# Altium schematic symbol library PBL - Resonators.SCHLIB: 5 symbols
Pins are listed as number, name and electrical type; pins without a type are passive.

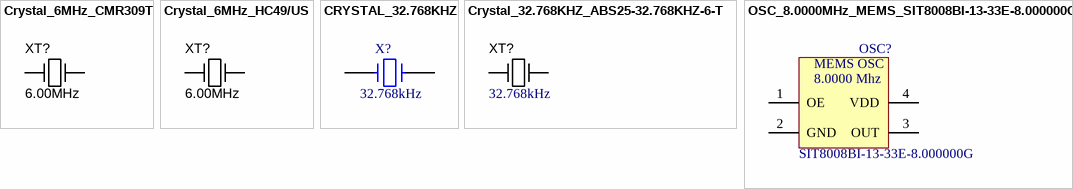
[diagram p0: symbols Crystal_6MHz_CMR309T to OSC_8.0000MHz_MEMS_SIT8008BI-13-33E-8.000000G]

## Crystal_6MHz_CMR309T
designator XT?, comment 6.00MHz
Resonator Ceramic 6.00 MHz 30ppm; Manufacturer 1: Citizen Finetech Miyota; Manufacturer Part Number 1: CMR309T-6.000MABJ-UT; Frequency: 6MHz; Frequency Stability: ±50ppm; Load Capacitance: 18pF; Operating Mode: Fundamental; SCDType: spec; Package / Case: Cylindrical Can, Radial; Ratings: 6.00 MHz; Type: MHz Crystal; Frequency Tolerance: ±30ppm; Operating Temperature: -10°C ~ 60°C; Mounting Type: Surface Mount; Size / Dimension: 0.118" Dia x 0.346" L (3.00mm x 8.80mm); Height: 0.122" (3.10mm); Supplier 1: Digi-Key; Supplier Part Number 1: 300-8348-1-ND; Tolerance: ±50ppm; ComponentLink1URL: http://media.digikey.com/pdf/Data%20Sheets/Citizen%20PDFs/CMR310T%20CMR309T.pdf; ComponentLink1Description: http://media.digikey.com/pdf/Data%20Sheets/Citizen%20PDFs/CMR310T%20CMR309T.pdf; Value: 6.00MHz
footprint CRYSTAL_CMR309T (SMD Crystal CMR309T package)
pins: 1 IN, 2 OUT

## Crystal_6MHz_HC49/US
designator XT?, comment 6.00MHz
Resonator Ceramic 6.00 MHz 30ppm; Manufacturer 1: CTS-Frequency Controls; Manufacturer Part Number 1: ATS060BSM-1; Frequency: 6MHz; Frequency Stability: ±50ppm; Load Capacitance: 18pF; Operating Mode: Fundamental; Parameter Name: 0.169" (4.30mm); SCDType: spec; Package / Case: HC49/US-SM; Ratings: 6.00 MHz; Supplier 1: Digi-Key; Supplier Part Number 1: CTX882CT-ND; Type: MHz Crystal; Frequency Tolerance: ±30ppm; Operating Temperature: -20°C ~ 70°C; Mounting Type: Surface Mount; Size / Dimension: 0.437" L x 0.190" W (11.10mm x 4.83mm); ComponentLink1URL: http://www.ctscorp.com/components/Datasheets/008-0309-0.pdf; ComponentLink1Description: http://www.ctscorp.com/components/Datasheets/008-0309-0.pdf
footprint CRYSTAL_HC49-US-SM (SMD Crystal HC49/US-SM package)
pins: 1 IN, 2 OUT

## CRYSTAL_32.768KHZ
designator X?, comment Frequency: 32.768kHz  (hidden comment: NX3215SA-32.768K-STD-MUA-8)
32.768kHz ±20ppm Crystal 12.5pF 70 kOhm -40°C ~ 85°C Surface Mount 2-SMD, No Lead; Manufacturer: NDK; ESR (Equivalent Series Resistance): 70 kOhm; Operating Mode: Fundamental; Supplier 1: Digi-Key; Supplier Part Number 1: 644-1156-1-ND; Manufacturer Part Number: NX3215SA-32.768K-STD-MUA-8; Packaging: Cut Tape (CT); Part Status: Active; Type: kHz Crystal (Tuning Fork); Frequency Stability: -; Frequency Tolerance: ±20ppm; Load Capacitance: 12.5pF; Operating Temperature: -40°C ~ 85°C; Ratings: -; Mounting Type: Surface Mount; Package / Case: 2-SMD, No Lead; Size / Dimension: 0.126" L x 0.059" W (3.20mm x 1.50mm); Height - Seated (Max): 0.035" (0.90mm); ComponentLink1URL: http://www.ndk.com/images/products/catalog/c_NX3215SA-STD-MUA-14_e.pdf; ComponentLink1Description: http://www.ndk.com/images/products/catalog/c_NX3215SA-STD-MUA-14_e.pdf; RoHS: RoHS Compliant; Category: Crystals, Oscillators, Resonators; Stock 1: 56931; Pricing 1: 1=0.94, 10=0.835, 50=0.7804, 100=0.6897, 500=0.6534, 1000=0.5445 (USD)
footprint XTAL_2SM_3R2X1R5 (CRYSTAL 32.768KHZ 6PF SMD 2 pads)
pins: 1, 2
2 alternate drawings of the same symbol

## Crystal_32.768KHZ_ABS25-32.768KHZ-6-T
designator XT?, comment Frequency: 32.768kHz  (hidden comment: ABS25-32.768KHZ-6-T)
32.768kHz ±20ppm Crystal 6pF 50 kOhm -40°C ~ 85°C Surface Mount 4-SOJ, 5.50mm pitch; Manufacturer: Abracon LLC; ESR (Equivalent Series Resistance): 50 kOhm; Operating Mode: Fundamental; Supplier 1: Digi-Key; Supplier Part Number 1: 535-10240-1-ND; Manufacturer Part Number: ABS25-32.768KHZ-6-T; Packaging: Cut Tape (CT); Part Status: Active; Type: kHz Crystal (Tuning Fork); Frequency Stability: -; Frequency Tolerance: ±20ppm; Load Capacitance: 6pF; Operating Temperature: -40°C ~ 85°C; Ratings: -; Mounting Type: Surface Mount; Package / Case: 4-SOJ, 5.50mm pitch; Size / Dimension: 0.315" L x 0.150" W (8.00mm x 3.80mm); Height - Seated (Max): 0.098" (2.50mm); ComponentLink1URL: http://www.abracon.com/Resonators/abs25.pdf; ComponentLink1Description: http://www.abracon.com/Resonators/abs25.pdf; RoHS: RoHS Compliant; Category: Crystals, Oscillators, Resonators; Stock 1: 122599; Pricing 1: 1=0.41, 10=0.344, 50=0.3094, 100=0.275, 500=0.26126, 1000=0.22 (USD)
footprint 4-SOJ
pins: 1 IN, 4 OUT

## OSC_8.0000MHz_MEMS_SIT8008BI-13-33E-8.000000G
designator OSC?, comment SIT8008BI-13-33E-8.000000G
8MHz MEMS (Silicon) LVCMOS Oscillator 3.3V Enable/Disable 4-SMD, No Lead; Manufacturer: SiTime; Frequency Stability: ±50ppm; Current - Supply (Max): 4.5mA; Current - Supply (Disable) (Max): 4mA; Supplier 1: Digi-Key; Manufacturer Part Number: SIT8008BI-13-33E-8.000000G; Stock 1: 254; Pricing 1: 1=1.13, 10=1.084, 50=1.0584, 100=0.9072 (USD); Category: Crystals and Oscillators; Family: Oscillators; Series: SiT8008; Packaging: Tape & Reel (TR); Type: MEMS (Silicon); Frequency: 8MHz; Function: Enable/Disable; Output: LVCMOS; Voltage - Supply: 3.3V; Operating Temperature: -40°C ~ 85°C; Ratings: -; Mounting Type: Surface Mount; Size / Dimension: 0.098" L x 0.079" W (2.50mm x 2.00mm); Height: 0.031" (0.80mm); Package / Case: 4-SMD, No Lead (DFN, LCC); ComponentLink1URL: https://www.sitime.com/products/datasheets/sit8008/SiT8008B-datasheet.pdf; ComponentLink1Description: https://www.sitime.com/products/datasheets/sit8008/SiT8008B-datasheet.pdf; Supplier Part Number 1: 1473-1487-1-ND
footprint SiT8008B - Package 1
pins: 1 OE, 2 GND, 3 OUT, 4 VDD
text: MEMS OSC; 8.0000 Mhz